# Altium footprint library SPB_Electrolytic_Capacitors_Footprints.PcbLib: 2 footprints
Each footprint in its own frame and in the unit in brackets; x right, y up, seen from the top. Pads: shape width x height; smd on the part's side, far side on the other; paste and mask are expansions set on the pad; w line width, h text height; cw(c..) or ccw(c..) is an arc to the next point about the centre after c.
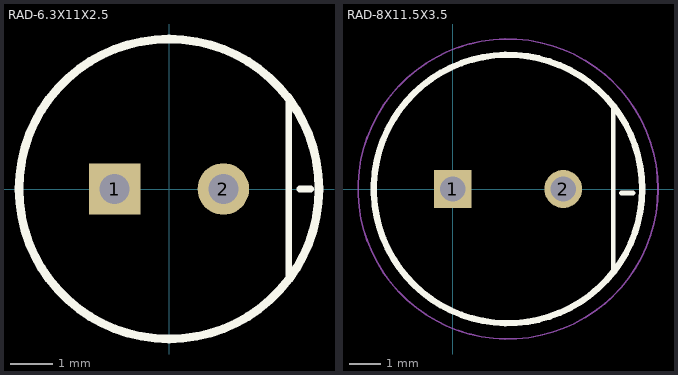
[diagram p0: the footprints below, top view; thin cyan lines are the x and y axes]

## RAD-6.3X11X2.5 [mm] "Radial Cap, Thru-Hole; 2 Leads; 0.1inch in Pin Spacing"
pads (2):
  rect 1.2x1.2 hole 0.7: 1(-1.27,0)
  round 1.2 hole 0.7: 2(1.27,0)
Top Overlay:
  circle w0.2: c0,0 r3.5
  lines w0.152: 2.794,-2.032 2.794,2.159 ; 3.048,0 3.302,0
3D body "cpol-v_p2-5_d6-5_h11-5.stp": height 11.51, standoff -3.35, extent -3.25,-3.247 3.255,3.247

## RAD-8X11.5X3.5 [mm]
pads (2):
  rect 1.2x1.2 hole 0.8: 1(0,0)
  round 1.2 hole 0.8: 2(3.5,0)
Top Overlay:
  circle w0.2: c1.75,0 r4.25
  lines w0.152: 5.08,-2.667 5.08,2.667 ; 5.334,-0.127 5.715,-0.127
Mechanical 13:
  circle w0.1: c1.75,0 r4.25
Mechanical 15:
  circle w0.05: c1.75,0 r4.75
3D body "cpol-v_p3-5_d8_h12.stp": height 12.01, standoff -3.3, extent -2.222,-3.998 5.781,3.998